# Altium schematic symbol library AP22814ASN-7.SchLib: 1 symbol
Pins are listed as number, name and electrical type; pins without a type are passive.

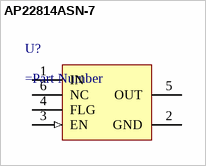
[diagram p0: symbol AP22814ASN-7]

## AP22814ASN-7
designator U?
=Description
pins: 1 IN (power), 2 GND (power), 3 EN (in), 4 FLG, 5 OUT (power), 6 NC